# Altium footprint library PCB_Test_2022-12-17.PcbLib: 25 footprints (part 2 of 2)
Each footprint in its own frame and in the unit in brackets; x right, y up, seen from the top. Pads: shape width x height; smd on the part's side, far side on the other; paste and mask are expansions set on the pad; w line width, h text height; cw(c..) or ccw(c..) is an arc to the next point about the centre after c.
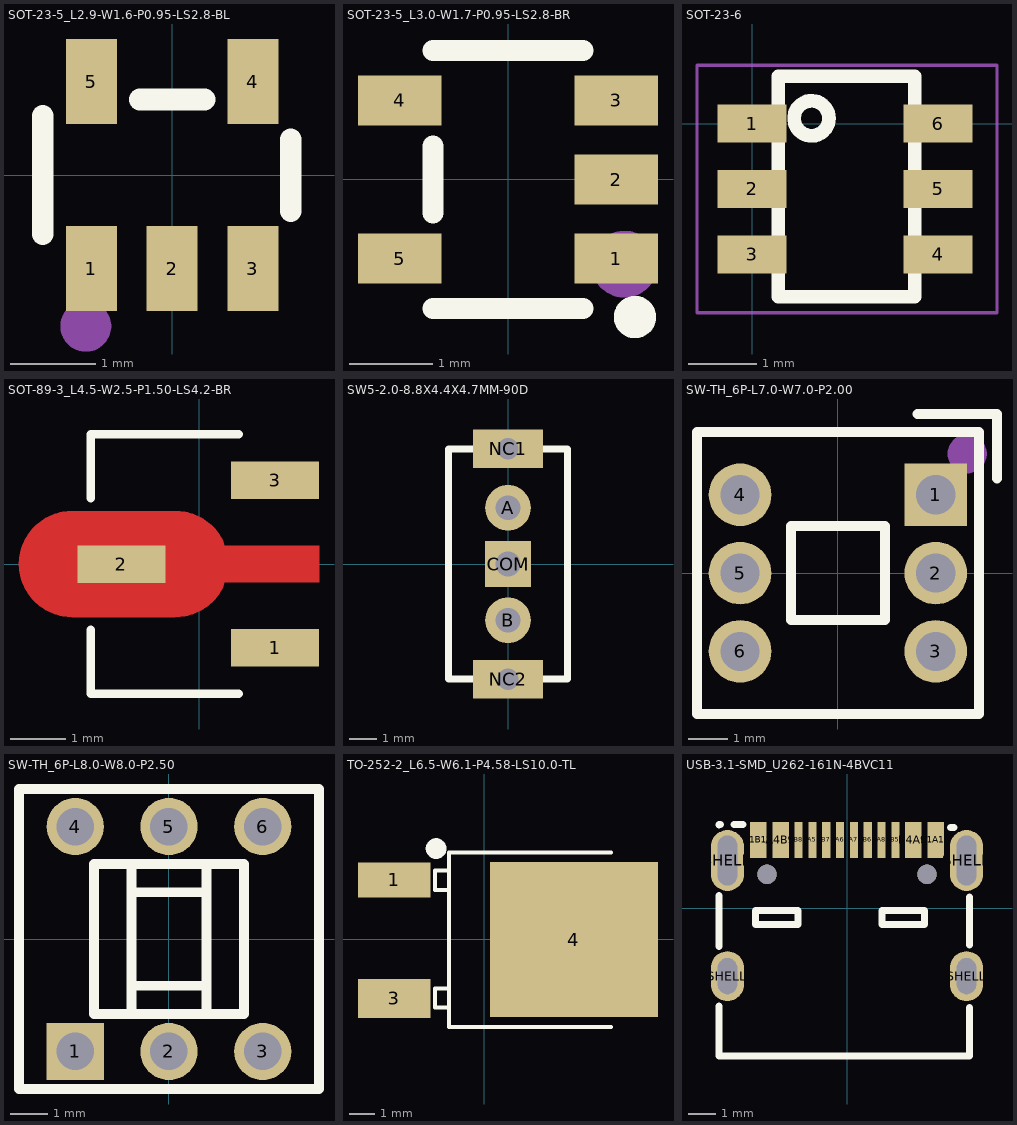
[diagram p1: the footprints below, top view; thin cyan lines are the x and y axes]

## SOT-23-5_L2.9-W1.6-P0.95-LS2.8-BL [mm]
pads (5):
  rect 0.6x1 smd: 1(-0.95,-1.1) 2(0,-1.1) 3(0.95,-1.1) 4(0.95,1.1) 5(-0.95,1.1)
Top Overlay:
  lines w0.254: -1.524,-0.699 -1.524,0.699 ; -0.381,0.889 0.381,0.889 ; 1.397,-0.422 1.397,0.422
Mechanical 15:
  circle w0.3: c-1.016,-1.778 r0.15

## SOT-23-5_L3.0-W1.7-P0.95-LS2.8-BR [mm]
pads (5):
  rect 1x0.6 smd: 1(1.3,-0.95) 2(1.3,0) 3(1.3,0.95) 4(-1.3,0.95) 5(-1.3,-0.95)
Top Overlay:
  circle w0.254: c1.524,-1.651 r0.127
  lines w0.254: -0.9,-1.55 0.9,-1.55 ; -0.9,-0.4 -0.9,0.4 ; -0.9,1.55 0.9,1.55
Mechanical 15:
  circle w0.4: c1.397,-1.016 r0.2

## SOT-23-6 [mm]
pads (6):
  rect 1x0.55 smd: 1(0,0) 2(0,-0.95) 3(0,-1.9) 4(2.7,-1.9) 5(2.7,-0.95) 6(2.7,0)
Top Overlay:
  circle w0.2: c0.864,0.076 r0.254
  lines w0.2: 0.381,-2.515 1.372,-2.515 2.362,-2.515 2.362,-0.914 2.362,0.686 1.372,0.686 0.381,0.686 0.381,-0.914 0.381,-2.515
Mechanical 1:
  lines w0.05: -0.8,-2.75 3.556,-2.75 3.556,0.85 -0.8,0.85 -0.8,-2.75

## SOT-89-3_L4.5-W2.5-P1.50-LS4.2-BR [mm]
pads (3):
  rect 1.575x0.672 smd: 1(1.356,-1.5) 3(1.356,1.5)
  rect 1.575x0.672 smd mask+0: 2(-1.397,0)
Top Layer:
  region: -2.283,0.95 -0.429,0.95 -0.384,0.949 -0.34,0.946 -0.296,0.94 -0.252,0.933 -0.208,0.924 -0.165,0.912 -0.123,0.899 -0.081,0.884 -0.04,0.866 0,0.847 0.04,0.826 0.078,0.803 0.115,0.779 0.151,0.752 0.185,0.724 0.219,0.695 0.251,0.664 0.281,0.631 0.31,0.597 0.337,0.562 0.362,0.525 0.386,0.488 0.408,0.449 0.428,0.409 0.447,0.33 2.144,0.33 2.144,-0.33 0.447,-0.33 0.428,-0.409 0.408,-0.449 0.386,-0.488 0.362,-0.526 0.337,-0.562 0.31,-0.597 0.281,-0.631 0.251,-0.664 0.219,-0.695 0.185,-0.725 0.151,-0.753 0.115,-0.779 0.078,-0.804 0.04,-0.827 0,-0.848 -0.04,-0.867 -0.081,-0.884 -0.123,-0.899 -0.165,-0.913 -0.208,-0.924 -0.252,-0.934 -0.296,-0.941 -0.34,-0.946 -0.384,-0.949 -0.429,-0.95 -2.283,-0.95 -2.328,-0.949 -2.372,-0.946 -2.416,-0.941 -2.46,-0.934 -2.504,-0.924 -2.547,-0.913 -2.589,-0.899 -2.631,-0.884 -2.672,-0.867 -2.713,-0.848 -2.752,-0.827 -2.79,-0.804 -2.827,-0.779 -2.863,-0.753 -2.898,-0.725 -2.931,-0.695 -2.963,-0.664 -2.993,-0.631 -3.022,-0.597 -3.049,-0.562 -3.075,-0.526 -3.098,-0.488 -3.12,-0.449 -3.141,-0.409 -3.159,-0.369 -3.175,-0.327 -3.189,-0.285 -3.202,-0.242 -3.212,-0.199 -3.22,-0.155 -3.227,-0.111 -3.231,-0.067 -3.233,-0.022 -3.233,0.022 -3.231,0.067 -3.227,0.111 -3.22,0.155 -3.212,0.199 -3.202,0.242 -3.189,0.285 -3.175,0.327 -3.159,0.369 -3.141,0.409 -3.12,0.449 -3.098,0.488 -3.075,0.525 -3.049,0.562 -3.022,0.597 -2.993,0.631 -2.963,0.664 -2.931,0.695 -2.898,0.724 -2.863,0.752 -2.827,0.779 -2.79,0.803 -2.752,0.826 -2.713,0.847 -2.672,0.866 -2.631,0.884 -2.589,0.899 -2.547,0.912 -2.504,0.924 -2.46,0.933 -2.416,0.94 -2.372,0.946 -2.328,0.949
Top Overlay:
  lines w0.152: -1.95,-1.177 -1.95,-2.326 0.702,-2.326 ; -1.95,1.177 -1.95,2.326 0.702,2.326
Top Paste:
  region: -2.283,0.95 -0.429,0.95 -0.384,0.949 -0.34,0.946 -0.296,0.94 -0.252,0.933 -0.208,0.924 -0.165,0.912 -0.123,0.899 -0.081,0.884 -0.04,0.866 0,0.847 0.04,0.826 0.078,0.803 0.115,0.779 0.151,0.752 0.185,0.724 0.219,0.695 0.251,0.664 0.281,0.631 0.31,0.597 0.337,0.562 0.362,0.525 0.386,0.488 0.408,0.449 0.428,0.409 0.447,0.33 2.144,0.33 2.144,-0.33 0.447,-0.33 0.428,-0.409 0.408,-0.449 0.386,-0.488 0.362,-0.526 0.337,-0.562 0.31,-0.597 0.281,-0.631 0.251,-0.664 0.219,-0.695 0.185,-0.725 0.151,-0.753 0.115,-0.779 0.078,-0.804 0.04,-0.827 0,-0.848 -0.04,-0.867 -0.081,-0.884 -0.123,-0.899 -0.165,-0.913 -0.208,-0.924 -0.252,-0.934 -0.296,-0.941 -0.34,-0.946 -0.384,-0.949 -0.429,-0.95 -2.283,-0.95 -2.328,-0.949 -2.372,-0.946 -2.416,-0.941 -2.46,-0.934 -2.504,-0.924 -2.547,-0.913 -2.589,-0.899 -2.631,-0.884 -2.672,-0.867 -2.713,-0.848 -2.752,-0.827 -2.79,-0.804 -2.827,-0.779 -2.863,-0.753 -2.898,-0.725 -2.931,-0.695 -2.963,-0.664 -2.993,-0.631 -3.022,-0.597 -3.049,-0.562 -3.075,-0.526 -3.098,-0.488 -3.12,-0.449 -3.141,-0.409 -3.159,-0.369 -3.175,-0.327 -3.189,-0.285 -3.202,-0.242 -3.212,-0.199 -3.22,-0.155 -3.227,-0.111 -3.231,-0.067 -3.233,-0.022 -3.233,0.022 -3.231,0.067 -3.227,0.111 -3.22,0.155 -3.212,0.199 -3.202,0.242 -3.189,0.285 -3.175,0.327 -3.159,0.369 -3.141,0.409 -3.12,0.449 -3.098,0.488 -3.075,0.525 -3.049,0.562 -3.022,0.597 -2.993,0.631 -2.963,0.664 -2.931,0.695 -2.898,0.724 -2.863,0.752 -2.827,0.779 -2.79,0.803 -2.752,0.826 -2.713,0.847 -2.672,0.866 -2.631,0.884 -2.589,0.899 -2.547,0.912 -2.504,0.924 -2.46,0.933 -2.416,0.94 -2.372,0.946 -2.328,0.949
Top Solder:
  region: -2.283,0.95 -0.429,0.95 -0.384,0.949 -0.34,0.946 -0.296,0.94 -0.252,0.933 -0.208,0.924 -0.165,0.912 -0.123,0.899 -0.081,0.884 -0.04,0.866 0,0.847 0.04,0.826 0.078,0.803 0.115,0.779 0.151,0.752 0.185,0.724 0.219,0.695 0.251,0.664 0.281,0.631 0.31,0.597 0.337,0.562 0.362,0.525 0.386,0.488 0.408,0.449 0.428,0.409 0.447,0.33 2.144,0.33 2.144,-0.33 0.447,-0.33 0.428,-0.409 0.408,-0.449 0.386,-0.488 0.362,-0.526 0.337,-0.562 0.31,-0.597 0.281,-0.631 0.251,-0.664 0.219,-0.695 0.185,-0.725 0.151,-0.753 0.115,-0.779 0.078,-0.804 0.04,-0.827 0,-0.848 -0.04,-0.867 -0.081,-0.884 -0.123,-0.899 -0.165,-0.913 -0.208,-0.924 -0.252,-0.934 -0.296,-0.941 -0.34,-0.946 -0.384,-0.949 -0.429,-0.95 -2.283,-0.95 -2.328,-0.949 -2.372,-0.946 -2.416,-0.941 -2.46,-0.934 -2.504,-0.924 -2.547,-0.913 -2.589,-0.899 -2.631,-0.884 -2.672,-0.867 -2.713,-0.848 -2.752,-0.827 -2.79,-0.804 -2.827,-0.779 -2.863,-0.753 -2.898,-0.725 -2.931,-0.695 -2.963,-0.664 -2.993,-0.631 -3.022,-0.597 -3.049,-0.562 -3.075,-0.526 -3.098,-0.488 -3.12,-0.449 -3.141,-0.409 -3.159,-0.369 -3.175,-0.327 -3.189,-0.285 -3.202,-0.242 -3.212,-0.199 -3.22,-0.155 -3.227,-0.111 -3.231,-0.067 -3.233,-0.022 -3.233,0.022 -3.231,0.067 -3.227,0.111 -3.22,0.155 -3.212,0.199 -3.202,0.242 -3.189,0.285 -3.175,0.327 -3.159,0.369 -3.141,0.409 -3.12,0.449 -3.098,0.488 -3.075,0.525 -3.049,0.562 -3.022,0.597 -2.993,0.631 -2.963,0.664 -2.931,0.695 -2.898,0.724 -2.863,0.752 -2.827,0.779 -2.79,0.803 -2.752,0.826 -2.713,0.847 -2.672,0.866 -2.631,0.884 -2.589,0.899 -2.547,0.912 -2.504,0.924 -2.46,0.933 -2.416,0.94 -2.372,0.946 -2.328,0.949
Mechanical 15:
  circle w0.3: c1.715,-1.5 r0.15

## SW5-2.0-8.8X4.4X4.7MM-90D [mil]
pads (5):
  round 65 hole 35: A(0,80) B(0,-80)
  rect 65x65 hole 35: COM(0,0)
  rect 99x55 hole 30: NC1(0,164) NC2(0,-164)
Top Overlay:
  lines w10: -85,-164 -85,164 85,164 85,-164 -85,-164

## SW-TH_6P-L7.0-W7.0-P2.00 [mm]
pads (6):
  rect 1.6x1.6 hole 1: 1(2.5,2)
  round 1.6 hole 1: 2(2.5,0) 3(2.5,-2) 4(-2.5,2) 5(-2.5,0) 6(-2.5,-2)
Top Overlay:
  lines w0.254: 2.032,4.064 4.064,4.064 4.064,2.413 ; -3.6,-3.6 -3.6,3.6 3.6,3.6 3.6,-3.6 -3.6,-3.6 ; -1.2,-1.2 -1.2,1.2 1.2,1.2 1.2,-1.2 -1.2,-1.2
Mechanical 15:
  circle w0.5: c3.302,3.048 r0.25

## SW-TH_6P-L8.0-W8.0-P2.50 [mm]
pads (6):
  rect 1.524x1.524 hole 1: 1(-2.5,-3)
  round 1.524 hole 1: 2(0,-3) 3(2.5,-3) 4(-2.5,3) 5(0,3) 6(2.5,3)
Top Overlay:
  lines w0.254: -1,-2 -1,2 ; -1,-1.25 1,-1.25 ; -1,1.25 1,1.25 ; 1,-2 1,2 ; -4,-4 -4,4 4,4 4,-4 -4,-4 ; -2,-2 -2,2 2,2 2,-2 -2,-2

## TO-252-2_L6.5-W6.1-P4.58-LS10.0-TL [mm]
pads (3):
  rect 2.8x1.35 smd: 1(-3.475,2.29)
  rect 2.8x1.5 smd: 3(-3.475,-2.29)
  rect 6.5x6 smd: 4(3.475,-0.017)
Top Overlay:
  lines w0.152: -1.348,-2.635 -1.348,-2.645 -1.904,-2.645 -1.904,-1.903 -1.348,-1.903 ; -1.348,1.916 -1.348,1.905 -1.904,1.905 -1.904,2.647 -1.348,2.647 ; 4.903,-3.393 -1.349,-3.393 -1.349,3.359 4.903,3.359
  lines w0.4: -1.857,3.302 cw(c-1.856,3.502) -1.854,3.302
Mechanical 15:
  circle w0.5: c-4.165,2.286 r0.25

## USB-3.1-SMD_U262-161N-4BVC11 [mm]
pads (18):
  rect 0.6x1.3 smd: A1B12(-3.2,2.461) A4B9(-2.4,2.461) B1A12(3.2,2.461) B4A9(2.4,2.461)
  rect 0.3x1.3 smd: A5(-1.25,2.461) A6(-0.25,2.461) A7(0.25,2.461) A8(1.25,2.461) B5(1.75,2.461) B6(0.75,2.461) B7(-0.75,2.461) B8(-1.75,2.461)
  oval 1.2x1.8 hole 0.7 slot 1.3 at 90 deg: SHELL(-4.32,-2.461) SHELL(4.32,-2.461)
  oval 1.2x2.2 hole 0.7 slot 1.8 at 90 deg: SHELL(-4.32,1.719) SHELL(4.32,1.719)
  round 0.7 hole 0.7 unplated: ""(-2.89,1.219) ""(2.89,1.219)
Top Overlay:
  lines w0.254: -4.62,-3.536 -4.62,-5.349 4.42,-5.349 4.42,-3.586 ; -4.62,-1.386 -4.62,0.444 ; -4.62,2.994 -4.62,3.011 -4.565,3.011 ; -4.075,3.011 -3.76,3.011 ; 3.74,2.911 3.862,2.911 ; 4.42,-1.336 4.42,0.394 ; -3.302,-0.597 -3.302,-0.089 -1.778,-0.089 -1.778,-0.597 -3.302,-0.597 ; 1.27,-0.597 1.27,-0.089 2.794,-0.089 2.794,-0.597 1.27,-0.597
Top Paste:
  region: -3.5,3.111 -2.9,3.111 -2.9,1.811 -3.5,1.811
  region: -2.7,3.111 -2.1,3.111 -2.1,1.811 -2.7,1.811
  region: 2.9,3.111 3.5,3.111 3.5,1.811 2.9,1.811
  region: 2.1,3.111 2.7,3.111 2.7,1.811 2.1,1.811
  region: -1.9,3.111 -1.6,3.111 -1.6,1.811 -1.9,1.811
  region: -1.4,3.111 -1.1,3.111 -1.1,1.811 -1.4,1.811
  region: -0.9,3.111 -0.6,3.111 -0.6,1.811 -0.9,1.811
  region: -0.4,3.111 -0.1,3.111 -0.1,1.811 -0.4,1.811
  region: 0.1,3.111 0.4,3.111 0.4,1.811 0.1,1.811
  region: 0.6,3.111 0.9,3.111 0.9,1.811 0.6,1.811
  region: 1.1,3.111 1.4,3.111 1.4,1.811 1.1,1.811
  region: 1.6,3.111 1.9,3.111 1.9,1.811 1.6,1.811
  region: -4.92,2.219 -4.919,2.338 -4.827,2.557 -4.658,2.724 -4.439,2.815 -4.201,2.815 -3.981,2.724 -3.813,2.557 -3.721,2.338 -3.72,2.219 -3.72,1.219 -3.721,1.1 -3.813,0.881 -3.981,0.713 -4.201,0.623 -4.439,0.623 -4.658,0.713 -4.827,0.881 -4.919,1.1 -4.92,1.219
  region: 3.72,2.219 3.72,2.338 3.812,2.559 3.98,2.727 4.201,2.819 4.44,2.819 4.66,2.727 4.829,2.559 4.92,2.338 4.92,2.219 4.92,1.219 4.92,1.099 4.829,0.879 4.66,0.71 4.44,0.619 4.201,0.619 3.98,0.71 3.812,0.879 3.72,1.099 3.72,1.219
  region: -4.92,-2.161 -4.919,-2.043 -4.827,-1.823 -4.658,-1.656 -4.439,-1.565 -4.201,-1.565 -3.981,-1.656 -3.813,-1.823 -3.721,-2.043 -3.72,-2.161 -3.72,-2.761 -3.721,-2.88 -3.813,-3.099 -3.981,-3.267 -4.201,-3.357 -4.439,-3.357 -4.658,-3.267 -4.827,-3.099 -4.919,-2.88 -4.92,-2.761
  region: 3.72,-2.161 3.72,-2.042 3.812,-1.822 3.98,-1.653 4.201,-1.561 4.44,-1.561 4.66,-1.653 4.829,-1.822 4.92,-2.042 4.92,-2.161 4.92,-2.761 4.92,-2.881 4.829,-3.101 4.66,-3.27 4.44,-3.361 4.201,-3.361 3.98,-3.27 3.812,-3.101 3.72,-2.881 3.72,-2.761